# Altium schematic symbol library Voiture-Supercap.SchLib: 7 symbols
Pins are listed as number, name and electrical type; pins without a type are passive.

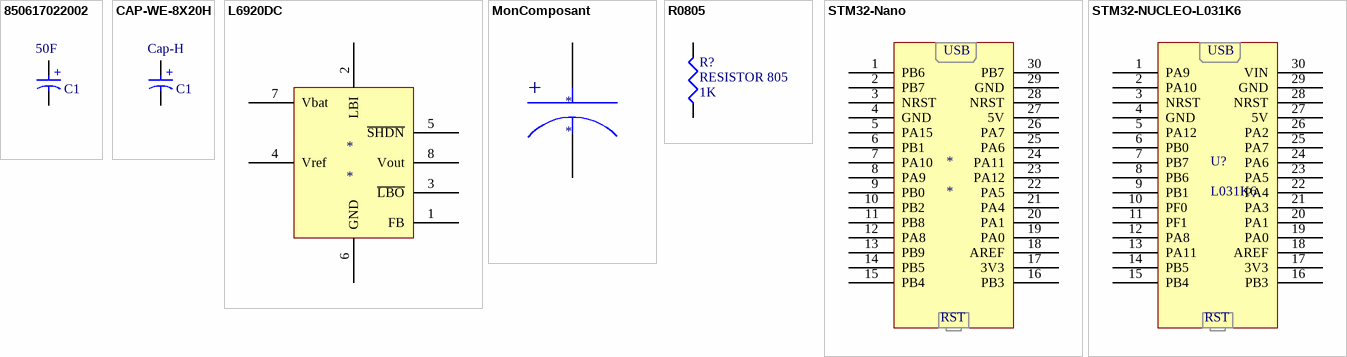
[diagram p0: symbols 850617022002 to STM32-NUCLEO-L031K6]

## 850617022002
designator C1, comment 50F
WCAP-STSC Supercapacitors (EDLCs), THT, D18 x H40mm, 50F, 2.7VDC; Manufacturer Part Number: 850617022002; Manufacturer: Wurth Elektronik; Capacitance Tolerance: -10% / +30%; Discharge Current Max: 33.7A; Energy Density: 4.5Wh/kg; ESR (AC): 15mΩ; ESR (DC): 20mΩ; Leakage Current: 0.105mA; Pitch: 7.5mm; Power Density: 8.13kW/kg; Rated Discharge Current: 11.2A; Rated Voltage (DC): 2.7V; Category: Super Capacitors (EDLCs); Match Code: WCAP-STSC; ComponentLink1Description: Website Link; ComponentLink1URL: https://www.we-online.com/redexpert/article/850617022002?ad; ComponentLink2Description: Datasheet Link; ComponentLink2URL: https://www.we-online.com/redexpert/spec/850617022002?ad; Mount: Through Hole; Operating Temperature Max: 65°C; Operating Temperature Min: -40°C; Packaging: Bag; Height: 40mm; Diameter: 18mm; Capacitance: 50F; Life Cycle: 500000Cycles
footprint SuperCap Couchee
footprint SuperCAP-Saillie
pins: 1 P, 2 N
text: +

## CAP-WE-8X20H
designator C1, comment Cap-H
Capacitor 8x20 H; Manufacturer Part Number: 850617022002; Manufacturer: Wurth Elektronik; Match Code: WCAP-STSC; Capacitance: 50F; Capacitance Tolerance: -10% / +30%; Discharge Current Max: 33.7A; Energy Density: 4.5Wh/kg; ESR (AC): 15mΩ; ESR (DC): 20mΩ; Leakage Current: 0.105mA; Pitch: 7.5mm; Power Density: 8.13kW/kg; Rated Discharge Current: 11.2A; Rated Voltage (DC): 2.7V; Category: Super Capacitors (EDLCs); ComponentLink1Description: Website Link; ComponentLink1URL: https://www.we-online.com/redexpert/article/850617022002?ad; ComponentLink2Description: Datasheet Link; ComponentLink2URL: https://www.we-online.com/redexpert/spec/850617022002?ad; Mount: Through Hole; Operating Temperature Max: 65°C; Operating Temperature Min: -40°C; Packaging: Bag; Height: 40mm; Diameter: 18mm; Life Cycle: 500000Cycles
footprint CAP-8x20
pins: 1 P, 2 N
text: +

## L6920DC
designator *
footprint TSOP65P500X110-8N (TSOP, 8-Leads, Body 3,00x2,95mm, Pitch 0,65mm, IPC Medium Density)
pins: 1 FB, 2 LBI, 3 ~{LBO}, 4 Vref, 5 ~{SHDN}, 6 GND, 7 Vbat, 8 Vout

## MonComposant
designator *
pins: 1 N, 2 P
text: +

## R0805
designator R?, comment RESISTOR 805  value 1K
Resistor; Published: 8-Jun-2000; LatestRevisionDate: 29-May-2009; LatestRevisionNote: IPC-7351 Footprint Added.; PackageReference: J1-0603; Publisher: Altium Limited; PackageDescription: Chip Resistor
footprint R0805 (Resistor 0805)
pins: 1, 2

## STM32-Nano
designator *
footprint STM-Nano
pins: 1 PB6, 2 PB7, 3 NRST, 4 GND, 5 PA15, 6 PB1, 7 PA10, 8 PA9, 9 PB0, 10 PB2, 11 PB8, 12 PA8, 13 PB9, 14 PB5, 15 PB4, 16 PB3, 17 3V3, 18 AREF, 19 PA0, 20 PA1, 21 PA4, 22 PA5, 23 PA12, 24 PA11, 25 PA6, 26 PA7, 27 5V, 28 NRST, 29 GND, 30 PB7
text: USB; RST

## STM32-NUCLEO-L031K6
designator U?, comment L031K6
STM32 Nucleo-32 development board with STM32L031K6 MCU, supports Arduino nano connectivity NUCLEO-L031K6
footprint STM-Nano
pins: 1 PA9, 2 PA10, 3 NRST, 4 GND, 5 PA12, 6 PB0, 7 PB7, 8 PB6, 9 PB1, 10 PF0, 11 PF1, 12 PA8, 13 PA11, 14 PB5, 15 PB4, 16 PB3, 17 3V3, 18 AREF, 19 PA0, 20 PA1, 21 PA3, 22 PA4, 23 PA5, 24 PA6, 25 PA7, 26 PA2, 27 5V, 28 NRST, 29 GND, 30 VIN
text: USB; RST